# EAGLE library part POLOLU_VNH2SP30-MD01B-U (library _hhn_Pololu)
POLOLU VNH2SP30 MD01B Motor Driver Carrier Board With Current Sense Output DEVICE VERSIONS [none]: plated auxilary OUTA connections * -U : non-plated auxilary OUTA connections -X : no symbol-pins for OUTx, BYPASS, VMOT, GND2 (drawing elements only) SOURCE www.pololu.com/ SPECS Operatingg voltage VMOT 5.5 .. 16 V Logic Voltage VIO 5 V typ. MOSFET on-resistance (per leg): 19 mOhm max. Max PWM frequency 20 kHz Current sense 0.13 V/A Over-voltage shutoff 16 V min. / 19 V typ. Logic input high threshold 3.25 V min. Time to overheat at 20 A 35 s Time to overheat at 15 A 150 s Current for infinite run time 14 A Author: Dipl.-Ing. FH Rainer Bayer
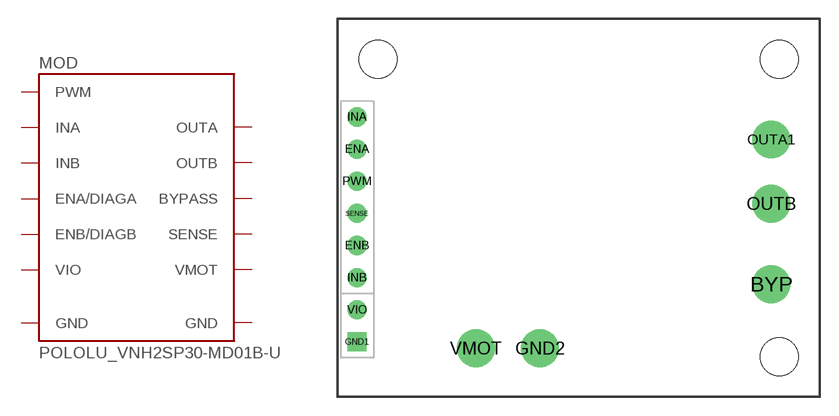
[diagram p2: symbol with the pads of POLOLU_MD01B_U; footprint POLOLU_MD01B_U]

Designator prefix MOD

## POLOLU_VNH2SP30-MD01B-U  [POLOLU_MD01B_U]
BYP  BYPASS  pwr
ENA  ENA/DIAGA  oc
ENB  ENB/DIAGB  oc
GND1  GND  pwr
GND2  GND  pwr
INA  INA  in
INB  INB  in
OUTA1  OUTA  out
OUTB  OUTB  out
PWM  PWM  in
SENSE  SENSE  pas
VIO  VIO  pwr
VMOT  VMOT  pwr

## Footprint POLOLU_MD01B_U (pad centres in mm)
POLOLU MD01B unplated auxilary OUTA-connections
drill 2: BYP 15.24,-6.032; GND2 -3.048,-11.113; OUTA1 15.24,5.397; OUTB 15.24,0.318; VMOT -8.128,-11.113
drill 1: ENA -17.526,4.636; ENB -17.526,-2.985; INA -17.526,7.176; INB -17.526,-5.524; PWM -17.526,2.095; SENSE -17.526,-0.445; VIO -17.526,-8.065
drill 1 square: GND1 -17.526,-10.604
hole 3 at 15.875,-11.773
hole 3 at -15.875,11.748
hole 3 at 15.875,11.748